# Altium footprint library CM.PcbLib: 73 footprints (part 1 of 5)
Each footprint in its own frame and in the unit in brackets; x right, y up, seen from the top. Pads: shape width x height; smd on the part's side, far side on the other; paste and mask are expansions set on the pad; w line width, h text height; cw(c..) or ccw(c..) is an arc to the next point about the centre after c.
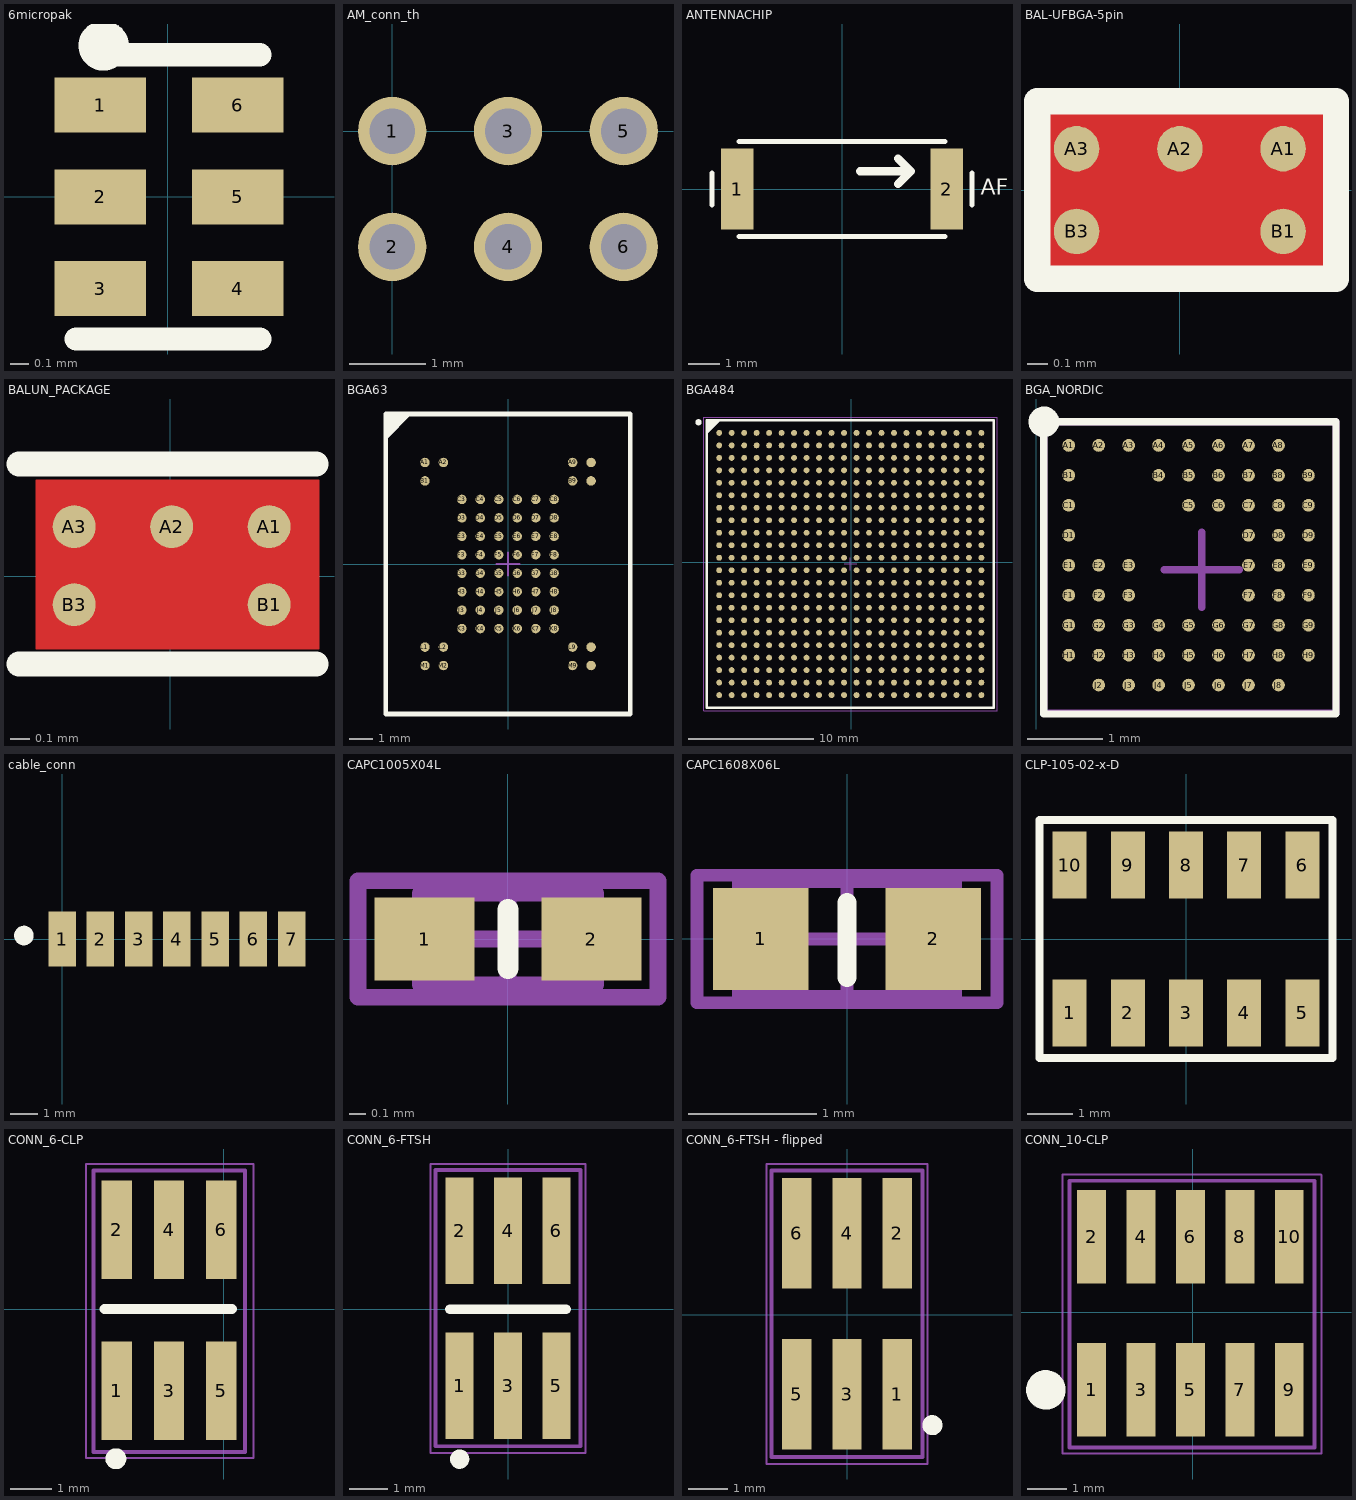
[diagram p0: the footprints below, top view; thin cyan lines are the x and y axes]

## 6micropak [mm]
pads (6):
  rect 0.5x0.3 smd paste+0 mask+0.05: 1(-0.369,0.5) 2(-0.369,0) 3(-0.369,-0.5) 4(0.381,-0.5) 5(0.381,0) 6(0.381,0.5)
Top Overlay:
  circle w0.203: c-0.35,0.825 r0.035
  lines w0.127: -0.5,-0.775 0.5,-0.775 ; -0.35,0.775 0.5,0.775
3D body: height 0.55, standoff 0, extent -0.5,-0.75 0.5,0.75

## AM_conn_th [mm]
pads (6):
  round 0.9 hole 0.6: 1(0,0) 2(0,-1.524) 3(1.524,0) 4(1.524,-1.524) 5(3.048,0) 6(3.048,-1.524)

## ANTENNACHIP [mil]
pads (2):
  rect 40x100 smd: 1(-130,0) 2(130,0)
Top Overlay:
  lines w6: -161.42,-19.68 -161.42,19.68 ; -127.95,-59.06 127.95,-59.06 ; -127.95,59.06 127.95,59.06 ; 161.42,-19.68 161.42,19.68
  lines w10: 22.5,22 85.5,22 ; 69.5,6 85.5,22 ; 69.5,38 85.5,22
  text "AF" at 172.24,-6.89 h20
3D body: height 27.17, standoff 0, extent -127.95,-43.31 -86.61,43.31
3D body: height 27.17, standoff 0, extent -86.34,-43.31 83.66,43.31
3D body: height 27.17, standoff 0, extent 83.94,-43.31 127.95,43.31

## BAL-UFBGA-5pin [mm]
pads (5):
  round 0.22 smd mask+0.05: A1(0.5,0.2) A2(0,0.2) A3(-0.5,0.2) B1(0.5,-0.2) B3(-0.5,-0.2)
Top Layer:
  pour cut-out: -0.697,-0.43 0.756,-0.43 0.756,0.44 -0.697,0.44
Top Overlay:
  lines w0.127: -0.69,-0.43 -0.69,0.43 0.756,0.43 0.756,-0.43 -0.69,-0.43
3D body: height 0.51, standoff 0.11, extent -0.69,-0.43 0.759,0.43
3D body: height 0.63, standoff 0.51, extent -0.703,-0.43 0.76,0.43
3D body: height 0.17, standoff -0.05, extent -0.109,0.091 0.11,0.31
3D body: height 0.17, standoff -0.05, extent 0.391,-0.309 0.61,-0.09
3D body: height 0.17, standoff -0.05, extent -0.609,0.091 -0.39,0.31
3D body: height 0.17, standoff -0.05, extent -0.609,-0.309 -0.39,-0.09
3D body: height 0.17, standoff -0.05, extent 0.391,0.091 0.61,0.31

## BALUN_PACKAGE [mm]
pads (5):
  round 0.22 smd mask+0.05: A1(0.508,0.254) A2(0.008,0.254) A3(-0.492,0.254) B1(0.508,-0.146) B3(-0.492,-0.146)
Top Layer:
  pour cut-out: -0.689,-0.376 0.764,-0.376 0.764,0.494 -0.689,0.494
Top Overlay:
  lines w0.127: -0.775,-0.45 0.75,-0.45 ; -0.775,0.575 0.75,0.575
3D body: height 0.51, standoff 0.11, extent -0.682,-0.376 0.767,0.484
3D body: height 0.17, standoff -0.05, extent 0.399,0.145 0.618,0.364
3D body: height 0.17, standoff -0.05, extent -0.601,-0.255 -0.382,-0.036
3D body: height 0.17, standoff -0.05, extent -0.601,0.145 -0.382,0.364
3D body: height 0.17, standoff -0.05, extent 0.399,-0.255 0.618,-0.036
3D body: height 0.17, standoff -0.05, extent -0.101,0.145 0.118,0.364
3D body: height 0.69, standoff 0.51, extent -0.695,-0.376 0.768,0.484

## BGA63 [mm] "BGA, 63-Leads, Body 9,00x11,00mmx1,00mm, Pitch 0,80mm"
height 1
pads (63):
  round 0.41 smd: A1(-3.6,4.4) A2(-2.8,4.4) A9(2.8,4.4) A10(3.6,4.4) B1(-3.6,3.6) B9(2.8,3.6) B10(3.6,3.6) C3(-2,2.8) C4(-1.2,2.8) C5(-0.4,2.8) C6(0.4,2.8) C7(1.2,2.8) C8(2,2.8) D3(-2,2) D4(-1.2,2) D5(-0.4,2) D6(0.4,2) D7(1.2,2) D8(2,2) E3(-2,1.2) E4(-1.2,1.2) E5(-0.4,1.2) E6(0.4,1.2) E7(1.2,1.2) E8(2,1.2) F3(-2,0.4) F4(-1.2,0.4) F5(-0.4,0.4) F6(0.4,0.4) F7(1.2,0.4) F8(2,0.4) G3(-2,-0.4) G4(-1.2,-0.4) G5(-0.4,-0.4) G6(0.4,-0.4) G7(1.2,-0.4) G8(2,-0.4) H3(-2,-1.2) H4(-1.2,-1.2) H5(-0.4,-1.2) H6(0.4,-1.2) H7(1.2,-1.2) H8(2,-1.2) J3(-2,-2) J4(-1.2,-2) J5(-0.4,-2) J6(0.4,-2) J7(1.2,-2) J8(2,-2) K3(-2,-2.8) K4(-1.2,-2.8) K5(-0.4,-2.8) K6(0.4,-2.8) K7(1.2,-2.8) K8(2,-2.8) L1(-3.6,-3.6) L2(-2.8,-3.6) L9(2.8,-3.6) L10(3.6,-3.6) M1(-3.6,-4.4) M2(-2.8,-4.4) M9(2.8,-4.4) M10(3.6,-4.4)
Top Overlay:
  circle w0.25: c-5.1,6.3 r0.125
  region: -4.3,6.5 -5.3,5.5 -5.3,6.5
  lines w0.2: -5.3,5.5 -4.3,6.5 ; -5.3,-6.5 5.3,-6.5 5.3,6.5 -5.3,6.5 -5.3,-6.5
Mechanical 13:
  lines w0.1: -5.3,-6.5 -5.3,6.5 5.3,6.5 5.3,-6.5 -5.3,-6.5
Mechanical 15:
  lines w0.05: -5.3,-6.5 5.3,-6.5 5.3,6.5 -5.3,6.5 -5.3,-6.5
  lines w0.1: -0.5,0 0.5,0 ; 0,-0.5 0,0.5
3D body: height 1, standoff 0.25, extent -5.3,-6.5 5.3,6.5

## BGA484 [mm]
pads (484):
  round 0.47 smd: A1(-10.559,10.356) A2(-9.559,10.356) A3(-8.559,10.356) A4(-7.559,10.356) A5(-6.559,10.356) A6(-5.559,10.356) A7(-4.559,10.356) A8(-3.559,10.356) A9(-2.559,10.356) A10(-1.559,10.356) A11(-0.559,10.356) A12(0.441,10.356) A13(1.441,10.356) A14(2.441,10.356) A15(3.441,10.356) A16(4.441,10.356) A17(5.441,10.356) A18(6.441,10.356) A19(7.441,10.356) A20(8.441,10.356) A21(9.441,10.356) A22(10.441,10.356) AA1(-10.559,-9.644) AA2(-9.559,-9.644) AA3(-8.559,-9.644) AA4(-7.559,-9.644) AA5(-6.559,-9.644) AA6(-5.559,-9.644) AA7(-4.559,-9.644) AA8(-3.559,-9.644) AA9(-2.559,-9.644) AA10(-1.559,-9.644) AA11(-0.559,-9.644) AA12(0.441,-9.644) AA13(1.441,-9.644) AA14(2.441,-9.644) AA15(3.441,-9.644) AA16(4.441,-9.644) AA17(5.441,-9.644) AA18(6.441,-9.644) AA19(7.441,-9.644) AA20(8.441,-9.644) AA21(9.441,-9.644) AA22(10.441,-9.644) AB1(-10.559,-10.644) AB2(-9.559,-10.644) AB3(-8.559,-10.644) AB4(-7.559,-10.644) AB5(-6.559,-10.644) AB6(-5.559,-10.644) AB7(-4.559,-10.644) AB8(-3.559,-10.644) AB9(-2.559,-10.644) AB10(-1.559,-10.644) AB11(-0.559,-10.644) AB12(0.441,-10.644) AB13(1.441,-10.644) AB14(2.441,-10.644) AB15(3.441,-10.644) AB16(4.441,-10.644) AB17(5.441,-10.644) AB18(6.441,-10.644) AB19(7.441,-10.644) AB20(8.441,-10.644) AB21(9.441,-10.644) AB22(10.441,-10.644) B1(-10.559,9.356) B2(-9.559,9.356) B3(-8.559,9.356) B4(-7.559,9.356) B5(-6.559,9.356) B6(-5.559,9.356) B7(-4.559,9.356) B8(-3.559,9.356) B9(-2.559,9.356) B10(-1.559,9.356) B11(-0.559,9.356) B12(0.441,9.356) B13(1.441,9.356) B14(2.441,9.356) B15(3.441,9.356) B16(4.441,9.356) B17(5.441,9.356) B18(6.441,9.356) B19(7.441,9.356) B20(8.441,9.356) B21(9.441,9.356) B22(10.441,9.356) C1(-10.559,8.356) C2(-9.559,8.356) C3(-8.559,8.356) C4(-7.559,8.356) C5(-6.559,8.356) C6(-5.559,8.356) C7(-4.559,8.356) C8(-3.559,8.356) C9(-2.559,8.356) C10(-1.559,8.356) C11(-0.559,8.356) C12(0.441,8.356) C13(1.441,8.356) C14(2.441,8.356) C15(3.441,8.356) C16(4.441,8.356) C17(5.441,8.356) C18(6.441,8.356) C19(7.441,8.356) C20(8.441,8.356) C21(9.441,8.356) C22(10.441,8.356) D1(-10.559,7.356) D2(-9.559,7.356) D3(-8.559,7.356) D4(-7.559,7.356) D5(-6.559,7.356) D6(-5.559,7.356) D7(-4.559,7.356) D8(-3.559,7.356) D9(-2.559,7.356) D10(-1.559,7.356) D11(-0.559,7.356) D12(0.441,7.356) D13(1.441,7.356) D14(2.441,7.356) D15(3.441,7.356) D16(4.441,7.356) D17(5.441,7.356) D18(6.441,7.356) D19(7.441,7.356) D20(8.441,7.356) D21(9.441,7.356) D22(10.441,7.356) E1(-10.559,6.356) E2(-9.559,6.356) E3(-8.559,6.356) E4(-7.559,6.356) E5(-6.559,6.356) E6(-5.559,6.356) E7(-4.559,6.356) E8(-3.559,6.356) E9(-2.559,6.356) E10(-1.559,6.356) E11(-0.559,6.356) E12(0.441,6.356) E13(1.441,6.356) E14(2.441,6.356) E15(3.441,6.356) E16(4.441,6.356) E17(5.441,6.356) E18(6.441,6.356) E19(7.441,6.356) E20(8.441,6.356) E21(9.441,6.356) E22(10.441,6.356) F1(-10.559,5.356) F2(-9.559,5.356) F3(-8.559,5.356) F4(-7.559,5.356) F5(-6.559,5.356) F6(-5.559,5.356) F7(-4.559,5.356) F8(-3.559,5.356) F9(-2.559,5.356) F10(-1.559,5.356) F11(-0.559,5.356) F12(0.441,5.356) F13(1.441,5.356) F14(2.441,5.356) F15(3.441,5.356) F16(4.441,5.356) F17(5.441,5.356) F18(6.441,5.356) F19(7.441,5.356) F20(8.441,5.356) F21(9.441,5.356) F22(10.441,5.356) G1(-10.559,4.356) G2(-9.559,4.356) G3(-8.559,4.356) G4(-7.559,4.356) G5(-6.559,4.356) G6(-5.559,4.356) G7(-4.559,4.356) G8(-3.559,4.356) G9(-2.559,4.356) G10(-1.559,4.356) G11(-0.559,4.356) G12(0.441,4.356) G13(1.441,4.356) G14(2.441,4.356) G15(3.441,4.356) G16(4.441,4.356) G17(5.441,4.356) G18(6.441,4.356) G19(7.441,4.356) G20(8.441,4.356) G21(9.441,4.356) G22(10.441,4.356) H1(-10.559,3.356) H2(-9.559,3.356) H3(-8.559,3.356) H4(-7.559,3.356) H5(-6.559,3.356) H6(-5.559,3.356) H7(-4.559,3.356) H8(-3.559,3.356) H9(-2.559,3.356) H10(-1.559,3.356) H11(-0.559,3.356) H12(0.441,3.356) H13(1.441,3.356) H14(2.441,3.356) H15(3.441,3.356) H16(4.441,3.356) H17(5.441,3.356) H18(6.441,3.356) H19(7.441,3.356) H20(8.441,3.356) H21(9.441,3.356) H22(10.441,3.356) J1(-10.559,2.356) J2(-9.559,2.356) J3(-8.559,2.356) J4(-7.559,2.356) J5(-6.559,2.356) J6(-5.559,2.356) J7(-4.559,2.356) J8(-3.559,2.356) J9(-2.559,2.356) J10(-1.559,2.356) J11(-0.559,2.356) J12(0.441,2.356) J13(1.441,2.356) J14(2.441,2.356) J15(3.441,2.356) J16(4.441,2.356) J17(5.441,2.356) J18(6.441,2.356) J19(7.441,2.356) J20(8.441,2.356) J21(9.441,2.356) J22(10.441,2.356) K1(-10.559,1.356) K2(-9.559,1.356) K3(-8.559,1.356) K4(-7.559,1.356) K5(-6.559,1.356) K6(-5.559,1.356) K7(-4.559,1.356) K8(-3.559,1.356) K9(-2.559,1.356) K10(-1.559,1.356) K11(-0.559,1.356) K12(0.441,1.356) K13(1.441,1.356) K14(2.441,1.356) K15(3.441,1.356) K16(4.441,1.356) K17(5.441,1.356) K18(6.441,1.356) K19(7.441,1.356) K20(8.441,1.356) K21(9.441,1.356) K22(10.441,1.356) L1(-10.559,0.356) L2(-9.559,0.356) L3(-8.559,0.356) L4(-7.559,0.356) L5(-6.559,0.356) L6(-5.559,0.356) L7(-4.559,0.356) L8(-3.559,0.356) L9(-2.559,0.356) L10(-1.559,0.356) L11(-0.559,0.356) L12(0.441,0.356) L13(1.441,0.356) L14(2.441,0.356) L15(3.441,0.356) L16(4.441,0.356) L17(5.441,0.356) L18(6.441,0.356) L19(7.441,0.356) L20(8.441,0.356) L21(9.441,0.356) L22(10.441,0.356) M1(-10.559,-0.644) M2(-9.559,-0.644) M3(-8.559,-0.644) M4(-7.559,-0.644) M5(-6.559,-0.644) M6(-5.559,-0.644) M7(-4.559,-0.644) M8(-3.559,-0.644) M9(-2.559,-0.644) M10(-1.559,-0.644) M11(-0.559,-0.644) M12(0.441,-0.644) M13(1.441,-0.644) M14(2.441,-0.644) M15(3.441,-0.644) M16(4.441,-0.644) M17(5.441,-0.644) M18(6.441,-0.644) M19(7.441,-0.644) M20(8.441,-0.644) M21(9.441,-0.644) M22(10.441,-0.644) N1(-10.559,-1.644) N2(-9.559,-1.644) N3(-8.559,-1.644) N4(-7.559,-1.644) N5(-6.559,-1.644) N6(-5.559,-1.644) N7(-4.559,-1.644) N8(-3.559,-1.644) N9(-2.559,-1.644) N10(-1.559,-1.644) N11(-0.559,-1.644) N12(0.441,-1.644) N13(1.441,-1.644) N14(2.441,-1.644) N15(3.441,-1.644) N16(4.441,-1.644) N17(5.441,-1.644) N18(6.441,-1.644) N19(7.441,-1.644) N20(8.441,-1.644) N21(9.441,-1.644) N22(10.441,-1.644) P1(-10.559,-2.644) P2(-9.559,-2.644) P3(-8.559,-2.644) P4(-7.559,-2.644) P5(-6.559,-2.644) P6(-5.559,-2.644) P7(-4.559,-2.644) P8(-3.559,-2.644) P9(-2.559,-2.644) P10(-1.559,-2.644) P11(-0.559,-2.644) P12(0.441,-2.644) P13(1.441,-2.644) P14(2.441,-2.644) P15(3.441,-2.644) P16(4.441,-2.644) P17(5.441,-2.644) P18(6.441,-2.644) P19(7.441,-2.644) P20(8.441,-2.644) P21(9.441,-2.644) P22(10.441,-2.644) R1(-10.559,-3.644) R2(-9.559,-3.644) R3(-8.559,-3.644) R4(-7.559,-3.644) R5(-6.559,-3.644) R6(-5.559,-3.644) R7(-4.559,-3.644) R8(-3.559,-3.644) R9(-2.559,-3.644) R10(-1.559,-3.644) R11(-0.559,-3.644) R12(0.441,-3.644) R13(1.441,-3.644) R14(2.441,-3.644) R15(3.441,-3.644) R16(4.441,-3.644) R17(5.441,-3.644) R18(6.441,-3.644) R19(7.441,-3.644) R20(8.441,-3.644) R21(9.441,-3.644) R22(10.441,-3.644) T1(-10.559,-4.644) T2(-9.559,-4.644) T3(-8.559,-4.644) T4(-7.559,-4.644) T5(-6.559,-4.644) T6(-5.559,-4.644) T7(-4.559,-4.644) T8(-3.559,-4.644) T9(-2.559,-4.644) T10(-1.559,-4.644) T11(-0.559,-4.644) T12(0.441,-4.644) T13(1.441,-4.644) T14(2.441,-4.644) T15(3.441,-4.644) T16(4.441,-4.644) T17(5.441,-4.644) T18(6.441,-4.644) T19(7.441,-4.644) T20(8.441,-4.644) T21(9.441,-4.644) T22(10.441,-4.644) U1(-10.559,-5.644) U2(-9.559,-5.644) U3(-8.559,-5.644) U4(-7.559,-5.644) U5(-6.559,-5.644) U6(-5.559,-5.644) U7(-4.559,-5.644) U8(-3.559,-5.644) U9(-2.559,-5.644) U10(-1.559,-5.644) U11(-0.559,-5.644) U12(0.441,-5.644) U13(1.441,-5.644) U14(2.441,-5.644) U15(3.441,-5.644) U16(4.441,-5.644) U17(5.441,-5.644) U18(6.441,-5.644) U19(7.441,-5.644) U20(8.441,-5.644) U21(9.441,-5.644) U22(10.441,-5.644) V1(-10.559,-6.644) V2(-9.559,-6.644) V3(-8.559,-6.644) V4(-7.559,-6.644) V5(-6.559,-6.644) V6(-5.559,-6.644) V7(-4.559,-6.644) V8(-3.559,-6.644) V9(-2.559,-6.644) V10(-1.559,-6.644) V11(-0.559,-6.644) V12(0.441,-6.644) V13(1.441,-6.644) V14(2.441,-6.644) V15(3.441,-6.644) V16(4.441,-6.644) V17(5.441,-6.644) V18(6.441,-6.644) V19(7.441,-6.644) V20(8.441,-6.644) V21(9.441,-6.644) V22(10.441,-6.644) W1(-10.559,-7.644) W2(-9.559,-7.644) W3(-8.559,-7.644) W4(-7.559,-7.644) W5(-6.559,-7.644) W6(-5.559,-7.644) W7(-4.559,-7.644) W8(-3.559,-7.644) W9(-2.559,-7.644) W10(-1.559,-7.644) W11(-0.559,-7.644) W12(0.441,-7.644) W13(1.441,-7.644) W14(2.441,-7.644) W15(3.441,-7.644) W16(4.441,-7.644) W17(5.441,-7.644) W18(6.441,-7.644) W19(7.441,-7.644) W20(8.441,-7.644) W21(9.441,-7.644) W22(10.441,-7.644) Y1(-10.559,-8.644) Y2(-9.559,-8.644) Y3(-8.559,-8.644) Y4(-7.559,-8.644) Y5(-6.559,-8.644) Y6(-5.559,-8.644) Y7(-4.559,-8.644) Y8(-3.559,-8.644) Y9(-2.559,-8.644) Y10(-1.559,-8.644) Y11(-0.559,-8.644) Y12(0.441,-8.644) Y13(1.441,-8.644) Y14(2.441,-8.644) Y15(3.441,-8.644) Y16(4.441,-8.644) Y17(5.441,-8.644) Y18(6.441,-8.644) Y19(7.441,-8.644) Y20(8.441,-8.644) Y21(9.441,-8.644) Y22(10.441,-8.644)
Top Overlay:
  circle w0.25: c-12.209,11.206 r0.125
  region: -10.559,11.356 -11.559,10.356 -11.559,11.356
  lines w0.2: -11.559,10.356 -10.559,11.356 ; -11.559,-11.644 11.441,-11.644 11.441,11.356 -11.559,11.356 -11.559,-11.644
Mechanical 13:
  lines w0.1: -11.559,-11.644 11.441,-11.644 11.441,11.356 -11.559,11.356 -11.559,-11.644
Mechanical 15:
  lines w0.05: -11.809,-11.894 11.691,-11.894 11.691,11.606 -11.809,11.606 -11.809,-11.894
  lines w0.1: -0.559,-0.144 0.441,-0.144 ; -0.059,-0.644 -0.059,0.356
3D body: height 2.23, standoff 0.05, extent -11.559,-11.644 11.441,11.356

## BGA_NORDIC [mm]
pads (62):
  round 0.17 smd mask+0.102: A1(0.432,3.886)
  round 0.17 smd: A2(0.832,3.886) A3(1.232,3.886) A4(1.632,3.886) A5(2.032,3.886) A6(2.432,3.886) A7(2.832,3.886) A8(3.232,3.886) B1(0.432,3.486) B4(1.632,3.486) B5(2.032,3.486) B6(2.432,3.486) B7(2.832,3.486) B8(3.232,3.486) B9(3.632,3.486) C1(0.432,3.086) C5(2.032,3.086) C6(2.432,3.086) C7(2.832,3.086) C8(3.232,3.086) C9(3.632,3.086) D1(0.432,2.686) D7(2.832,2.686) D8(3.232,2.686) D9(3.632,2.686) E1(0.432,2.286) E2(0.832,2.286) E3(1.232,2.286) E7(2.832,2.286) E8(3.232,2.286) E9(3.632,2.286) F1(0.432,1.886) F2(0.832,1.886) F3(1.232,1.886) F7(2.832,1.886) F8(3.232,1.886) F9(3.632,1.886) G1(0.432,1.486) G2(0.832,1.486) G3(1.232,1.486) G4(1.632,1.486) G5(2.032,1.486) G6(2.432,1.486) G7(2.832,1.486) G8(3.232,1.486) G9(3.632,1.486) H1(0.432,1.086) H2(0.832,1.086) H3(1.232,1.086) H4(1.632,1.086) H5(2.032,1.086) H6(2.432,1.086) H7(2.832,1.086) H8(3.232,1.086) H9(3.632,1.086) J2(0.832,0.686) J3(1.232,0.686) J4(1.632,0.686) J5(2.032,0.686) J6(2.432,0.686) J7(2.832,0.686) J8(3.232,0.686)
Top Overlay:
  circle w0.2: c0.1,4.2 r0.105
  lines w0.1: 0.1,0.3 0.1,4.2 4,4.2 4,0.3 0.1,0.3
Mechanical 13:
  lines w0.1: 0.1,0.311 4,0.311 4,4.2 0.1,4.2 0.1,0.311
Mechanical 15:
  lines w0.1: 1.707,2.226 2.707,2.226 ; 2.207,1.726 2.207,2.726
3D body: height 0.5, standoff 0, extent 0.15,0.35 3.95,4.15
3D body: height 0.51, standoff 0.5, extent 0.546,3.513 0.745,3.713

## cable_conn [mm]
pads (7):
  rect 1x2 smd: 1(0,0) 2(1.397,0) 3(2.794,0) 4(4.191,0) 5(5.588,0) 6(6.985,0) 7(8.382,0)
Top Overlay:
  circle w0.356: c-1.397,0.127 r0.18

## CAPC1005X04L [mm]
pads (2):
  rect 0.6x0.5 smd: 1(-0.5,0) 2(0.5,0)
Top Overlay:
  lines w0.127: 0,-0.178 0,0.178
Mechanical 13:
  lines w0.1: -0.525,-0.275 0.525,-0.275 0.525,0.275 -0.525,0.275 -0.525,-0.275
Mechanical 15:
  lines w0.1: -0.275,0 0.275,0 ; 0,-0.275 0,0.275 ; -0.9,-0.35 -0.9,0.35 0.9,0.35 0.9,-0.35 -0.9,-0.35
3D body: height 0.5, standoff -0.01, extent -0.508,-0.254 0.508,0.254

## CAPC1608X06L [mm]
pads (2):
  rect 0.75x0.8 smd: 1(-0.675,0) 2(0.675,0)
Top Overlay:
  lines w0.152: 0,-0.3 0,0.285
Mechanical 13:
  lines w0.1: -0.85,-0.45 -0.85,0.45 0.85,0.45 0.85,-0.45 -0.85,-0.45
Mechanical 15:
  lines w0.1: -0.45,0 0.45,0 ; 0,-0.45 0,0.45 ; -1.175,-0.5 1.175,-0.5 1.175,0.5 -1.175,0.5 -1.175,-0.5
3D body: height 0.8, standoff 0, extent -0.8,-0.43 0.8,0.43

## CLP-105-02-x-D [mm] "50mil double-row 2.12mm high surface mount female hdr"
pads (10):
  rect 0.74x1.47 smd: 1(-2.54,-1.615) 2(-1.27,-1.615) 3(0,-1.615) 4(1.27,-1.615) 5(2.54,-1.615) 6(2.54,1.615) 7(1.27,1.615) 8(0,1.615) 9(-1.27,1.615) 10(-2.54,1.615)
Top Overlay:
  lines w0.178: -3.2,-2.6 -3.2,2.6 3.2,2.6 3.2,-2.6 -3.2,-2.6

## CONN_6-CLP [mm] "CLP-103-xx-x-D"
pads (6):
  rect 0.74x2.4 smd: 1(-2.6,-1.995) 2(-2.6,1.935) 3(-1.33,-1.995) 4(-1.33,1.935) 5(-0.06,-1.995) 6(-0.06,1.935)
Top Overlay:
  circle w0.254: c-2.625,-3.65 r0.127
  lines w0.254: -2.9,0 0.2,0
Mechanical 13:
  lines w0.1: -3.17,-3.485 -3.17,3.375 0.525,3.375 0.525,-0.362 0.525,-3.485 -3.17,-3.485
Mechanical 15:
  lines w0.05: -3.35,-3.635 0.725,-3.635 0.725,3.535 -3.35,3.535 -3.35,-3.635
3D body: height 0.8, standoff 0.05, extent -3.186,-2.535 0.5,2.365

## CONN_6-FTSH [mm] "FTSH-105-xx-x-DV"
pads (6):
  rect 0.74x2.79 smd: 1(-1.27,-2.01) 2(-1.27,2.06) 3(0,-2.01) 4(0,2.06) 5(1.27,-2.01) 6(1.27,2.06)
Top Overlay:
  circle w0.254: c-1.27,-3.937 r0.127
  lines w0.254: -1.524,0 1.524,0
Mechanical 13:
  lines w0.1: -1.905,-3.6 -1.905,3.65 1.905,3.65 1.905,0.877 1.905,-3.6 -1.905,-3.6
Mechanical 15:
  lines w0.05: -2.032,-3.775 2.032,-3.775 2.032,3.81 -2.032,3.81 -2.032,-3.775
3D body: height 0.8, standoff 0.05, extent -1.905,-2.51 1.905,2.39

## CONN_6-FTSH - flipped [mm] "FTSH-105-xx-x-DV"
pads (6):
  rect 0.74x2.79 smd: 1(1.27,-2.01) 2(1.27,2.06) 3(0,-2.01) 4(0,2.06) 5(-1.27,-2.01) 6(-1.27,2.06)
Top Overlay:
  circle w0.254: c2.159,-2.794 r0.127
Mechanical 13:
  lines w0.1: -1.905,-3.6 -1.905,3.65 1.905,3.65 1.905,0.877 1.905,-3.6 -1.905,-3.6
Mechanical 15:
  lines w0.05: -2.032,-3.775 2.032,-3.775 2.032,3.81 -2.032,3.81 -2.032,-3.775
3D body: height 0.8, standoff 0.05, extent -1.905,-2.51 1.905,2.39

## CONN_10-CLP [mm] "CLP-105-xx-x-D"
pads (10):
  rect 0.74x2.4 smd: 1(-2.6,-1.995) 2(-2.6,1.935) 3(-1.33,-1.995) 4(-1.33,1.935) 5(-0.06,-1.995) 6(-0.06,1.935) 7(1.21,-1.995) 8(1.21,1.935) 9(2.48,-1.995) 10(2.48,1.935)
Top Overlay:
  circle w0.508: c-3.775,-2 r0.254
Mechanical 13:
  lines w0.1: 3.128,-2.965 3.128,3.375 -3.17,3.375 -3.17,-3.485 3.13,-3.485 3.13,-2.905
Mechanical 15:
  lines w0.05: -3.35,-3.635 -3.35,3.535 3.29,3.535 3.307,3.518 3.307,-3.635 -3.35,-3.635
3D body: height 0.8, standoff 0.05, extent -3.186,-2.535 3.12,2.365